# EAGLE library part ADAFRUIT_POWERBOOST1000_SMD (library brett)
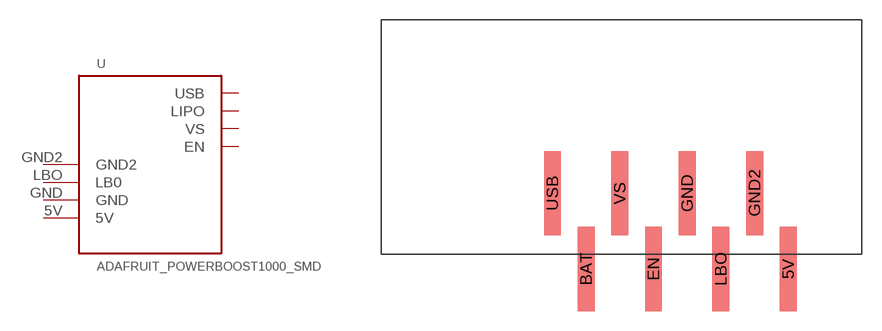
[diagram p4: symbol with the pads of ADAFRUIT_POWERBOOST1000_SM; footprint ADAFRUIT_POWERBOOST1000_SM]

Designator prefix -

## ADAFRUIT_POWERBOOST1000_SMD  [ADAFRUIT_POWERBOOST1000_SM]
5V  5V
BAT  LIPO
EN  EN  pwr
GND  GND
GND2  GND2
LBO  LB0
USB  USB  pwr
VS  VS

## Footprint ADAFRUIT_POWERBOOST1000_SM (pad centres in mm)
smd 1.27 x 6.35: 5V 30.675,-1.122; BAT 15.435,-1.122; EN 20.515,-1.122; GND 23.055,4.588; GND2 28.135,4.588; LBO 25.595,-1.122; USB 12.895,4.588; VS 17.975,4.588